# EAGLE library part MSP430G22X0 (library custom)
MSP430G22X0-SOIC-8
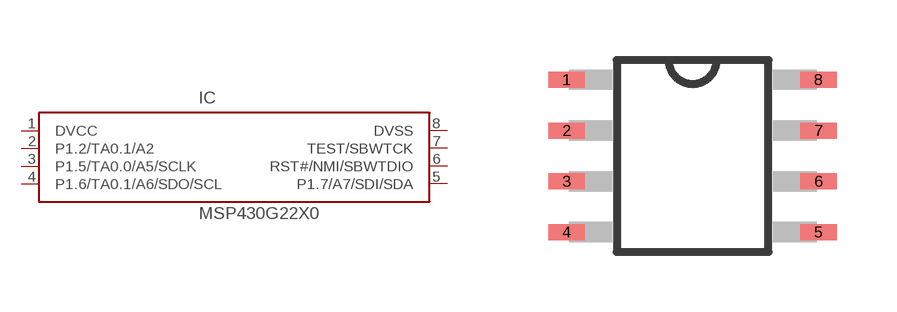
[diagram p1: symbol with the pads of SOIC-8; footprint SOIC-8]

Designator prefix IC

## MSP430G22X0  [SOIC-8]
1  DVCC  pwr
2  P1.2/TA0.1/A2
3  P1.5/TA0.0/A5/SCLK
4  P1.6/TA0.1/A6/SDO/SCL
5  P1.7/A7/SDI/SDA
6  RST#/NMI/SBWTDIO
7  TEST/SBWTCK
8  DVSS  pwr

## Footprint SOIC-8 (pad centres in mm)
SOIC-8 Auto generated by make-symbol-device-package-bsdl.ulp Rev. 43
smd 0.9 x 0.4: 1 -3.15,1.905; 2 -3.15,0.635; 3 -3.15,-0.635; 4 -3.15,-1.905; 5 3.15,-1.905; 6 3.15,-0.635; 7 3.15,0.635; 8 3.15,1.905